# Altium footprint library EMC-SUPPRESSORS.PcbLib: 1 footprints
Each footprint in its own frame and in the unit in brackets; x right, y up, seen from the top. Pads: shape width x height; smd on the part's side, far side on the other; paste and mask are expansions set on the pad; w line width, h text height; cw(c..) or ccw(c..) is an arc to the next point about the centre after c.
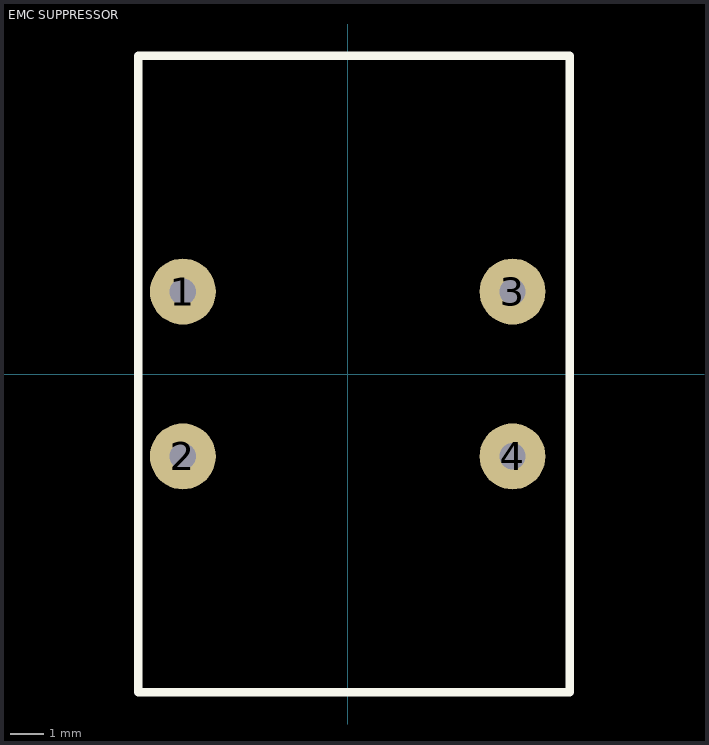
[diagram p0: the footprint, top view; thin cyan lines are the x and y axes]

## EMC SUPPRESSOR [mm] "EMC SUPPRESSOR LF V-102 U-1A"
pads (4):
  round 2 hole 0.8: 1(-5,2.5) 2(-5,-2.5) 3(5,2.5) 4(5,-2.5)
Top Overlay:
  lines w0.254: -6.35,-9.652 6.731,-9.652 6.731,9.652 -6.35,9.652 -6.35,-9.652
3D body "EMC-SUPPRESSORS.stp": height 19.6, standoff -3, extent -6.1,-9.35 6.5,9.35